# Altium footprint library Custom Components.PcbLib: 49 footprints (part 1 of 4)
Each footprint in its own frame and in the unit in brackets; x right, y up, seen from the top. Pads: shape width x height; smd on the part's side, far side on the other; paste and mask are expansions set on the pad; w line width, h text height; cw(c..) or ccw(c..) is an arc to the next point about the centre after c.
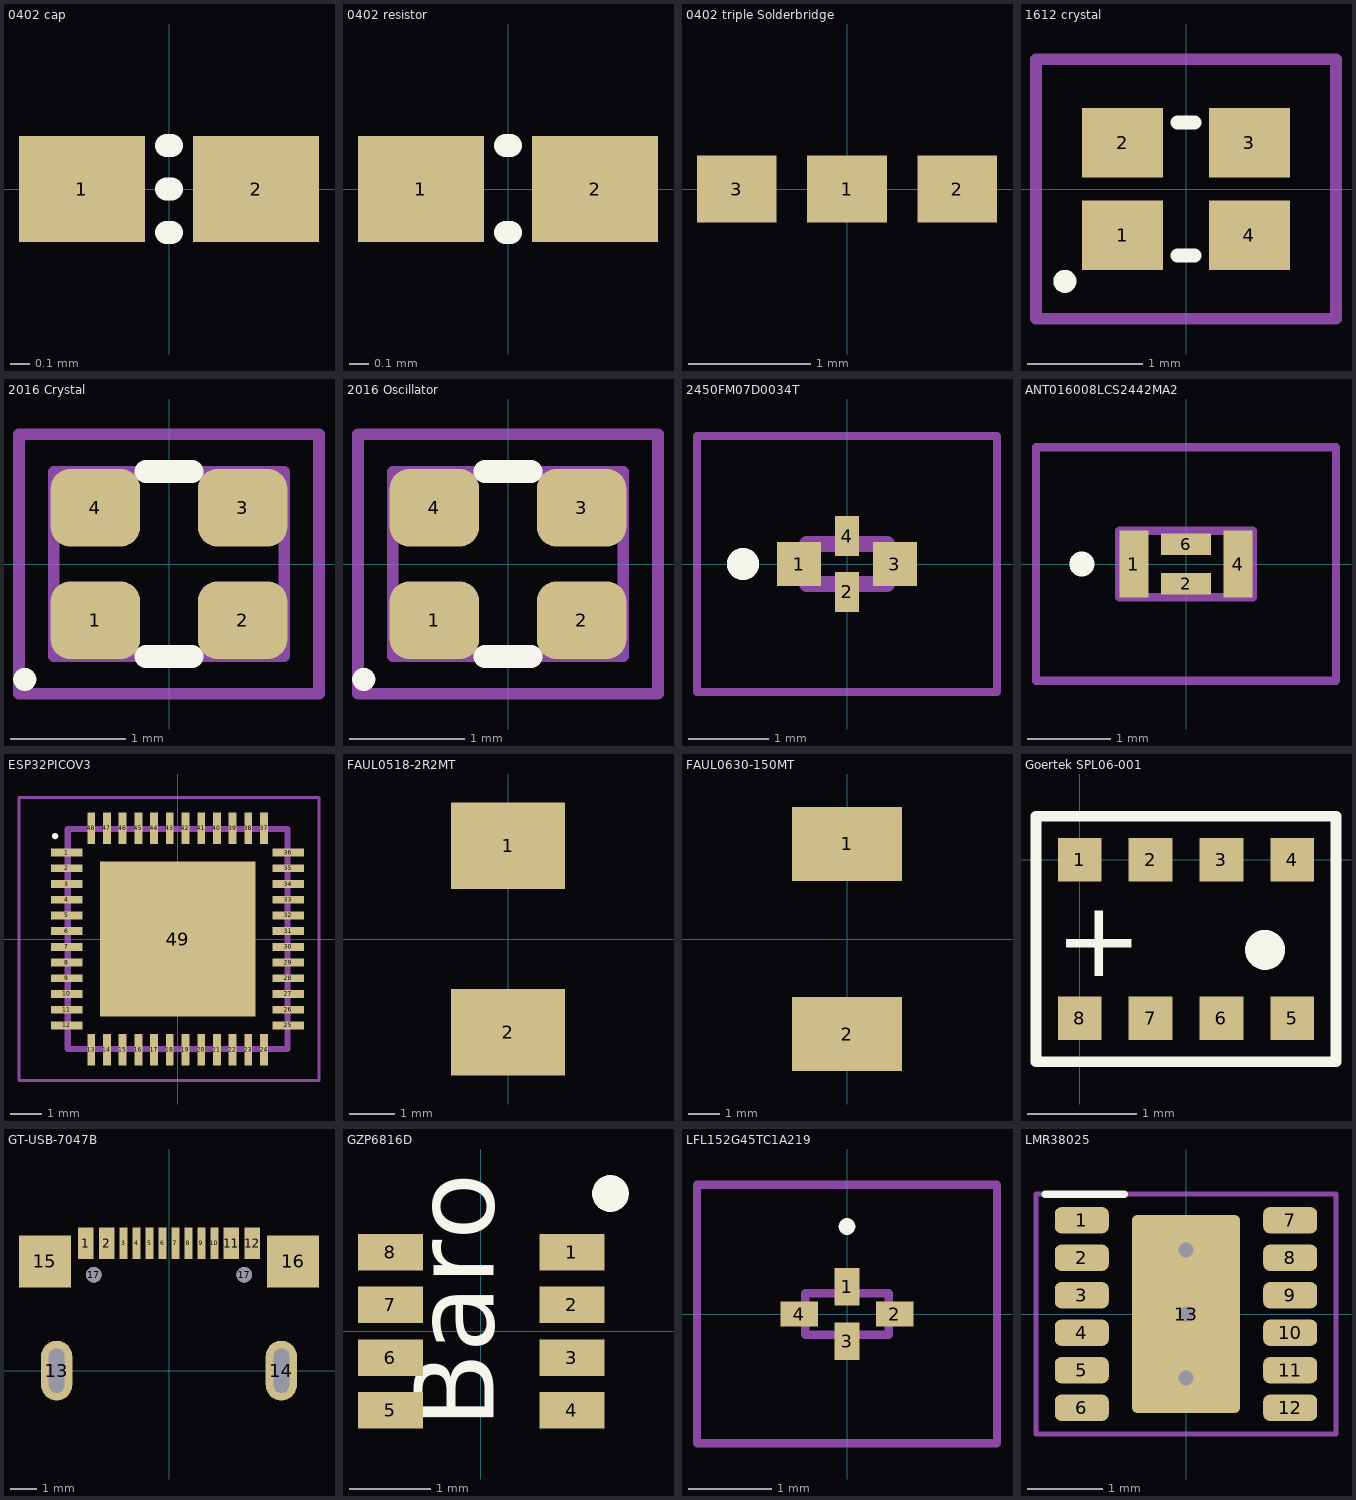
[diagram p0: the footprints below, top view; thin cyan lines are the x and y axes]

## 0402 cap [mm]
pads (2):
  rect 0.65x0.55 smd: 1(-0.45,0) 2(0.45,0)
Top Overlay:
  lines w0.12: -0.013,-0.225 0.012,-0.225 ; -0.013,0 0.012,0 ; -0.012,0.225 0.013,0.225
3D body: height 0.35, standoff 0, extent -0.3,-0.25 0.3,0.25
3D body: height 0.35, standoff 0, extent 0.3,-0.25 0.5,0.25
3D body: height 0.35, standoff 0, extent -0.5,-0.25 -0.3,0.25

## 0402 resistor [mm]
pads (2):
  rect 0.65x0.55 smd: 1(-0.45,0) 2(0.45,0)
Top Overlay:
  lines w0.12: -0.013,-0.225 0.012,-0.225 ; -0.012,0.225 0.013,0.225
3D body: height 0.35, standoff 0, extent -0.3,-0.25 0.3,0.25
3D body: height 0.35, standoff 0, extent 0.3,-0.25 0.5,0.25
3D body: height 0.35, standoff 0, extent -0.5,-0.25 -0.3,0.25

## 0402 triple Solderbridge [mm]
pads (3):
  rect 0.65x0.55 smd: 1(0,0) 2(0.9,0) 3(-0.9,0)

## 1612 crystal [mm]
pads (4):
  rect 0.7x0.6 smd: 1(-0.55,-0.4) 2(-0.55,0.4) 3(0.55,0.4) 4(0.55,-0.4)
Top Overlay:
  lines w0.1: -1.1,-0.8 cw(c-1.05,-0.8) -1,-0.8 cw(c-1.05,-0.8) -1.1,-0.8
  lines w0.12: -0.075,-0.575 0.075,-0.575 ; -0.075,0.575 0.075,0.575
Mechanical 15:
  lines w0.1: -1.3,-1.125 -1.3,1.125 1.3,1.125 1.3,-1.125 -1.3,-1.125
3D body: height 0.25, standoff 0, extent -0.8,-0.6 0.8,0.6

## 2016 Crystal [mm]
pads (4):
  rrect50% 0.775x0.675 smd: 1(-0.637,-0.487) 2(0.637,-0.487) 3(0.637,0.487) 4(-0.637,0.487)
Top Overlay:
  lines w0.1: -1.3,-1 cw(c-1.25,-1) -1.2,-1 cw(c-1.25,-1) -1.3,-1
  lines w0.2: -0.2,-0.8 0.2,-0.8 ; -0.2,0.8 0.2,0.8
Mechanical 13:
  lines w0.1: -1,-0.8 -1,0.8 1,0.8 1,-0.8 -1,-0.8
Mechanical 15:
  lines w0.1: -1.3,-1.125 -1.3,1.125 1.3,1.125 1.3,-1.125 -1.3,-1.125
3D body "DSC6003MA3B-032K768.stp": height 0.99, standoff 0, extent -1,-0.8 1,0.8

## 2016 Oscillator [mm]
pads (4):
  rrect50% 0.775x0.675 smd: 1(-0.637,-0.487) 2(0.637,-0.487) 3(0.637,0.487) 4(-0.637,0.487)
Top Overlay:
  lines w0.1: -1.3,-1 ccw(c-1.25,-1) -1.2,-1 ccw(c-1.25,-1) -1.3,-1
  lines w0.2: -0.2,-0.8 0.2,-0.8 ; -0.2,0.8 0.2,0.8
Mechanical 13:
  lines w0.1: -1,-0.8 1,-0.8 1,0.8 -1,0.8 -1,-0.8
Mechanical 15:
  lines w0.1: -1.3,-1.125 1.3,-1.125 1.3,1.125 -1.3,1.125 -1.3,-1.125
3D body "DSC6003MA3B-032K768.stp": height 0.99, standoff 0, extent -1,-0.8 1,0.8

## 2450FM07D0034T [mm]
pads (4):
  rect 0.55x0.55 smd: 1(-0.6,0) 3(0.6,0)
  rect 0.3x0.5 smd: 2(0,-0.35) 4(0,0.35)
Top Overlay:
  lines w0.2: -1.3,-0.1 cw(c-1.3,0) -1.3,0.1 cw(c-1.3,0) -1.3,-0.1
Mechanical 13:
  lines w0.2: -0.5,-0.25 0.5,-0.25 0.5,0.25 -0.5,0.25 -0.5,-0.25
Mechanical 15:
  lines w0.1: -1.875,-1.6 1.875,-1.6 1.875,1.6 -1.875,1.6 -1.875,-1.6

## ANT016008LCS2442MA2 [mm]
pads (4):
  rect 0.35x0.8 smd: 1(-0.625,0) 4(0.625,0)
  rect 0.6x0.26 smd: 2(0,-0.235) 6(0,0.235)
Top Overlay:
  lines w0.2: -1.3,0 ccw(c-1.25,0) -1.2,0 ; -1.3,0 cw(c-1.25,0) -1.2,0 ; -1.3,0 ccw(c-1.25,0) -1.2,0
Mechanical 13:
  lines w0.1: -0.8,-0.4 0.8,-0.4 0.8,0.4 -0.8,0.4 -0.8,-0.4
Mechanical 15:
  lines w0.1: -1.8,-1.4 1.8,-1.4 1.8,1.4 -1.8,1.4 -1.8,-1.4
3D body "ANT016008LCS2442MA2.stp": height 0.4, standoff 0, extent -0.85,-0.45 0.85,0.45

## ESP32PICOV3 [mm]
pads (49):
  rect 1x0.25 smd: 1(-3.525,2.75) 2(-3.525,2.25) 3(-3.525,1.75) 4(-3.525,1.25) 5(-3.525,0.75) 6(-3.525,0.25) 7(-3.525,-0.25) 8(-3.525,-0.75) 9(-3.525,-1.25) 10(-3.525,-1.75) 11(-3.525,-2.25) 12(-3.525,-2.75) 25(3.525,-2.75) 26(3.525,-2.25) 27(3.525,-1.75) 28(3.525,-1.25) 29(3.525,-0.75) 30(3.525,-0.25) 31(3.525,0.25) 32(3.525,0.75) 33(3.525,1.25) 34(3.525,1.75) 35(3.525,2.25) 36(3.525,2.75)
  rect 0.25x1 smd: 13(-2.75,-3.525) 14(-2.25,-3.525) 15(-1.75,-3.525) 16(-1.25,-3.525) 17(-0.75,-3.525) 18(-0.25,-3.525) 19(0.25,-3.525) 20(0.75,-3.525) 21(1.25,-3.525) 22(1.75,-3.525) 23(2.25,-3.525) 24(2.75,-3.525) 37(2.75,3.525) 38(2.25,3.525) 39(1.75,3.525) 40(1.25,3.525) 41(0.75,3.525) 42(0.25,3.525) 43(-0.25,3.525) 44(-0.75,3.525) 45(-1.25,3.525) 46(-1.75,3.525) 47(-2.25,3.525) 48(-2.75,3.525)
  rect 4.95x4.95 smd: 49(0,0)
Top Overlay:
  lines w0.1: -3.9,3.225 ccw(c-3.9,3.275) -3.9,3.325 ccw(c-3.9,3.275) -3.9,3.225
Mechanical 13:
  lines w0.2: -3.5,-3.5 -3.5,3.5 3.5,3.5 3.5,-3.5 -3.5,-3.5
Mechanical 15:
  lines w0.1: -5.05,-4.5 -5.05,4.5 4.5,4.5 4.5,-4.5 -5.05,-4.5
3D body "ESP32-PICO-V3.stp": height 0.94, standoff 0, extent -3.5,-3.5 3.5,3.5

## FAUL0518-2R2MT [mm]
pads (2):
  rect 2.5x1.9 smd: 1(0,2.05) 2(0,-2.05)
3D body: height 1.6, standoff 0, extent -2.6,-2.7 2.6,2.7

## FAUL0630-150MT [mm]
pads (2):
  rect 3.5x2.35 smd: 1(0,3.025) 2(0,-3.025)
3D body: height 2.8, standoff 0, extent -3.3,-3.5 3.3,3.5

## Goertek SPL06-001 [mm]
pads (8):
  rect 0.4x0.4 smd: 1(0,0) 2(0.65,0) 3(1.3,0) 4(1.95,0) 5(1.95,-1.45) 6(1.3,-1.45) 7(0.65,-1.45) 8(0,-1.45)
Top Overlay:
  circle w0.254: c1.7,-0.825 r0.056
  lines w0.1: -0.4,-1.85 -0.4,0.4 2.35,0.4 2.35,-1.85 -0.4,-1.85 ; -0.4,-1.85 -0.4,-1.85
  text "+" at -0.225,-1.067 h0.7
3D body: height 0.95, standoff 0, extent -0.275,-1.725 2.225,0.275

## GT-USB-7047B [mm]
pads (18):
  rect 0.6x1.2 smd: 1(-3.2,4.9) 2(-2.4,4.9) 11(2.4,4.9) 12(3.2,4.9)
  rect 0.3x1.2 smd: 3(-1.75,4.9) 4(-1.25,4.9) 5(-0.75,4.9) 6(-0.25,4.9) 7(0.25,4.9) 8(0.75,4.9) 9(1.25,4.9) 10(1.75,4.9)
  oval 1.2x2.3 hole 0.6 slot 1.7 at 90 deg: 13(-4.32,0) 14(4.32,0)
  rect 2x2 smd: 15(-4.77,4.2) 16(4.77,4.2)
  round 0.6 hole 0.6 unplated: 17(-2.89,3.68) 17(2.89,3.68)
3D body: height 2.4, standoff 0, extent -3.1,-1.2 3.2,4.9
3D body: height 2.4, standoff 0, extent 2,-1.2 4.4,4.9
3D body: height 2.4, standoff 0, extent -4.3,-1.2 -1.9,4.9

## GZP6816D [mm]
pads (8):
  rect 0.8x0.45 smd: 1(1.125,0.975) 2(1.125,0.325) 3(1.125,-0.325) 4(1.125,-0.975) 5(-1.117,-0.975) 6(-1.117,-0.325) 7(-1.117,0.325) 8(-1.117,0.975)
Top Overlay:
  circle w0.254: c1.6,1.7 r0.1
  text "Baro" at 0.487,-1.2 h1.7

## LFL152G45TC1A219 [mm]
pads (4):
  rect 0.3x0.45 smd: 1(0,0.325) 3(0,-0.325)
  rect 0.45x0.3 smd: 2(0.575,0) 4(-0.575,0)
Top Overlay:
  lines w0.1: 0,1 ccw(c0,1.05) 0,1.1 ccw(c0,1.05) 0,1
Mechanical 13:
  lines w0.1: -0.5,-0.25 -0.5,0.25 0.5,0.25 0.5,-0.25 -0.5,-0.25
Mechanical 15:
  lines w0.1: -1.8,-1.55 -1.8,1.55 1.8,1.55 1.8,-1.55 -1.8,-1.55
3D body "LFL152G45TC1A219.stp": height 0.5, standoff 0, extent -0.77,-0.52 0.77,0.52

## LMR38025 [mm] "LMR38025-Q1 SIMPLE SWITCHER® Power Converter, 4.2-V to 80-V, 2.5-A Automotive / Synchronous Buck Converter With 40-µA IQ"
pads (13):
  rrect50% 0.72x0.35 smd mask-0.05: 1(-1.39,1.25) 2(-1.39,0.75) 3(-1.39,0.25) 4(-1.39,-0.25) 5(-1.39,-0.75) 6(-1.39,-1.25) 7(1.39,1.25) 8(1.39,0.75) 9(1.39,0.25) 10(1.39,-0.25) 11(1.39,-0.75) 12(1.39,-1.25)
  rrect10% 1.44x2.64 / inner round 0.45 / far side round 0.45 hole 0.2 mask-0.07: 13(0,0)
via 0,0.85 diameter 0.6 hole 0.2
via 0,-0.85 diameter 0.6 hole 0.2
Top Overlay:
  lines w0.1: -1.875,1.6 -0.825,1.6
Mechanical 15:
  lines w0.07: -2,-1.6 2,-1.6 2,1.6 -2,1.6 -2,-1.6
3D body: height 0.75, standoff 0, extent -1.5,-1.5 1.5,1.5